# EAGLE library part MPU9250 (library JetsonProj)
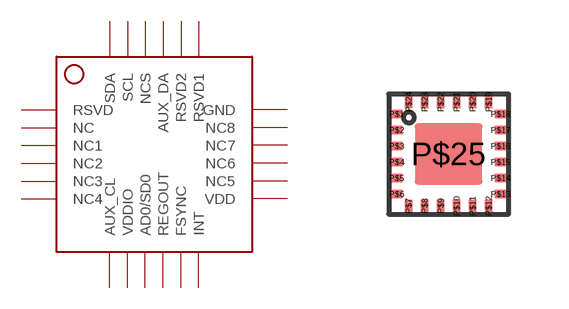
[diagram p4: symbol with the pads of QFN3X3; footprint QFN3X3]

Designator prefix -

## MPU9250  [QFN3X3]
P$1  RSVD
P$2  NC
P$3  NC1
P$4  NC2
P$5  NC3
P$6  NC4
P$7  AUX_CL
P$8  VDDIO
P$9  AD0/SD0
P$10  REGOUT
P$11  FSYNC
P$12  INT
P$13  VDD
P$14  NC5
P$15  NC6
P$16  NC7
P$17  NC8
P$18  GND
P$19  RSVD1
P$20  RSVD2
P$21  AUX_DA
P$22  NCS
P$23  SCL
P$24  SDA
P$25  GND

## Footprint QFN3X3 (pad centres in mm)
smd 0.3 x 0.2: P$1 0.2,2.5; P$2 0.2,2.1; P$3 0.2,1.7; P$4 0.2,1.3; P$5 0.2,0.9; P$6 0.2,0.5; P$13 2.8,0.5; P$14 2.8,0.9; P$15 2.8,1.3; P$16 2.8,1.7; P$17 2.8,2.1; P$18 2.8,2.5
smd 0.2 x 0.3: P$7 0.5,0.2; P$8 0.9,0.2; P$9 1.3,0.2; P$10 1.7,0.2; P$11 2.1,0.2; P$12 2.5,0.2; P$19 2.5,2.8; P$20 2.1,2.8; P$21 1.7,2.8; P$22 1.3,2.8; P$23 0.9,2.8; P$24 0.5,2.8
smd 1.7 x 1.54: P$25 1.5,1.5